# Altium integrated library TI Power Management DC-DC Controller (External Switch).IntLib: 349 symbols (part 10 of 28)
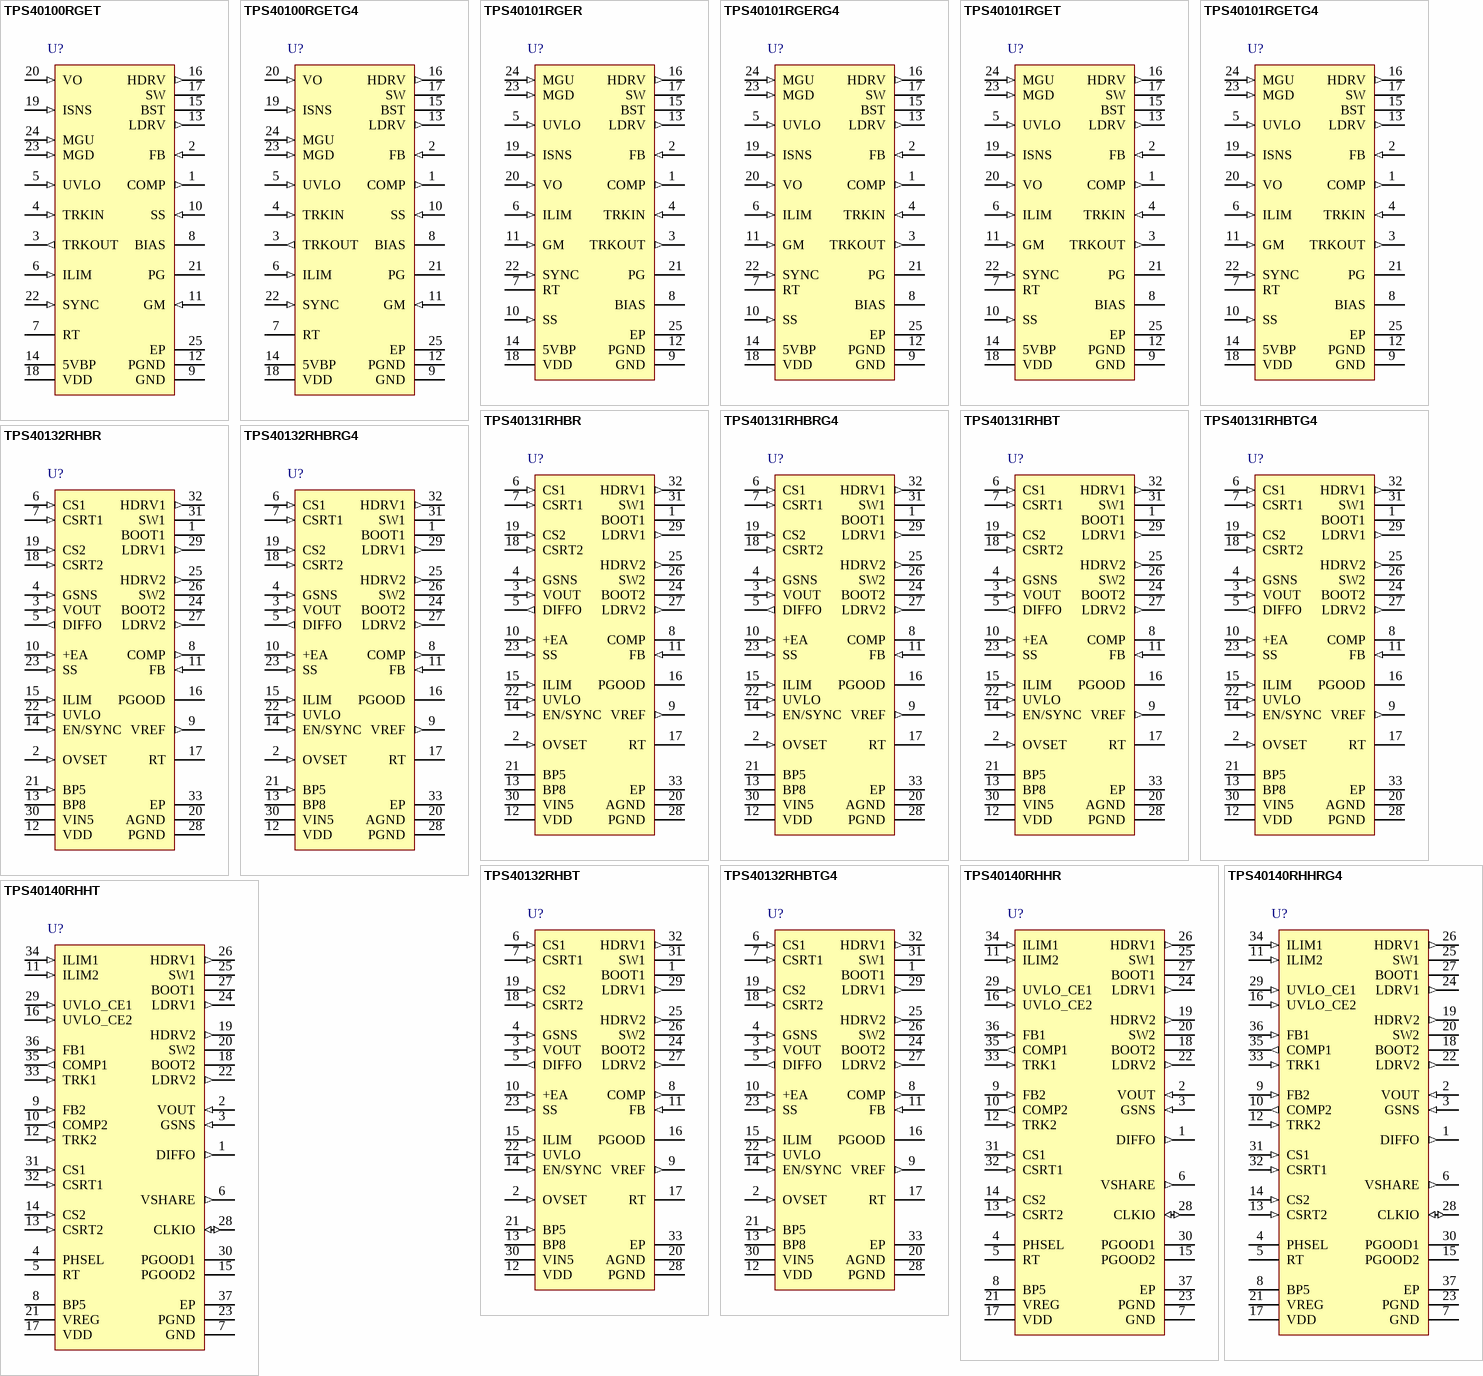
[diagram p23: symbols TPS40100RGET to TPS40140RHHT]

## TPS40101RGER
designator U?
Mid Range Input Synchronous Buck Controller with Advanced Sequencing and Output Margining, 85 % Duty Cycle, 4.5 to 18 V, -40 to 85 degC, 24-pin VQFN (RGE), Green (RoHS & no Sb/Br); Manufacturer: Texas Instruments; PartNumber: TPS40101RGER; Duty Cycle(Max)(%): 85; Iout(Max)(A): 20; Regulated Outputs(#): 1; SubFamily: Step-Down Controller; Switching Frequency(Max)(kHz): 1000; Synchronous Rectification: TRUE; Vin(Max)(V): 18; Vin(Min)(V): 4.5; Vout(Max)(V): 5.5; Vout(Min)(V): 0.69; DatasheetVersion: SLUS726; PackageVersion: revG, Jul-2011; PackageReference: RGE24-2450X2450TP; PackageDescription: 24-Pin Plastic Quad Flatpack No-Lead, 4 x 4 mm Body, 0.5 mm Pitch; Supplier 1: Digi-Key; Supplier Part Number 1: 296-21271-2-ND; Supplier 2: Digi-Key; Supplier Part Number 2: 296-21271-1-ND; Supplier 3: Digi-Key; Supplier Part Number 3: 296-21271-6-ND; Supplier 4: Newark; Supplier Part Number 4: 20M5884; Supplier 5: Mouser; Supplier Part Number 5: 595-TPS40101RGER; Eco-Plan: Green (RoHS & no Sb/Br); Topology: Buck; Mounting Technology: Surface Mount; Code_JEDEC: MO-220; ComponentLink1Description: Datasheet; ComponentLink1URL: http://www.ti.com/general/docs/lit/getliterature.tsp?genericPartNumber=TPS40101&fileType=pdf; ComponentLink2Description: Package Specification; ComponentLink2URL: http://www.ti.com/litv/pdf/mpqf124f
footprint RGE24-2450X2450TP (QFN, 24-Leads, Body 4x4mm, Pitch 0.5mm, Thermal Pad 2.45x2.45mm, TI Recommended)
pins: 1 COMP (out) "Output of the error amplifier. A feedback network is connected from this pin to the FB pin for control loop compensation.", 2 FB (in) "Inverting input to the error amplifier. In normal operation the voltage on this pin is equal to the internal reference voltage (approximately 690 mV).", 3 TRKOUT (out) "Output of the tracking amplifier. If the tracking feature is used, this pin should be connected to FB pin through a resistor in series with a diode. The resistor value can be calculated from the equivalent impedance at the (See Datasheet)", 4 TRKIN (in) "Control input allowing simultaneous startup of multiple controllers. The converter output tracks TRKIN voltage with a small controlled offset (typically 25 mV) when the tracking amplifier is used. See application secttion (See Datasheet)", 5 UVLO (in) "Provides for programming the undervoltage lockout level and serves as a shutdown input for the device.", 6 ILIM (in) "Current limit pin used to set the overcurrent threshold and transient ride out time. An internal current source that is proportional to the inductor current sets a voltage on a resistor connected from this pin to GND. When (See Datasheet)", 7 RT "A resistor connected from this pin to GND sets operating frequency.", 8 BIAS "The bypassed supply for internal device circuitry. Connect a 0.1-uF or greater ceramic capacitor from this pin to GND.", 9 GND (power) "Low power or signal ground for the device. All signal level circuits should be referenced to this pin unless otherwise noted.", 10 SS (in) "Soft-start programming pin. A capacitor connected from this pin to ground programs the soft-start time. This pin is also used as a time out function during an overcurrent event.", 11 GM (in) "Connect a resistor from this pin to GND to set the gain of the current sense amplifier.", 12 PGND (power) "Power ground for internal drivers", 13 LDRV (out) "Gate drive for the N-channel synchronous rectifier.", 14 5VBP (power) "Output of an internal 5-V regulator. A 1-uF bypass capacitor should be connected from this  pin to PGND. Power for external circuitry may be drawn from this pin. The total gate drive current and external current draw should (See Datasheet)", 15 BST (power) "Gate drive voltage for the high-side N-channel MOSFET. An external diode must be connected from 5VBP (A) to BST(K). A schottky diode is recommended for this purpose. A capacitor must be connected from this pin to the SW pin.", 16 HDRV (out) "Floating gate drive for the high side N-channel MOSFET.", 17 SW (power) "Connected to the switched node of the converter. This pin is the return line for the flying high side driver.", 18 VDD (power) "Supply voltage for the device.", 19 ISNS (in) "Input from the inductor DCR sensing network. This input signal is one of the inputs to the current sense amplifier for current feedback control and overcurrent protection.", 20 VO (in) "Output voltage. This is the reference input to the current sense amplifier for current mode control and overcurrent protection.", 21 PG (oc) "Open drain power good output for the device. This pin is pulled low when the voltage at the FB pin is more than 10% higher or lower than 690 mV, a UVLO condition exists, soft-start is active, tracking is active, an (See Datasheet)", 22 SYNC (in) "Rising edge triggered synchronization input for the device. This pin can be used to synchronize the oscillator frequency to an external master clock. This pin may be left floating or grounded if the function is not used.", 23 MGD (in) "Margin down pin used for load stress test. When this pin is pulled to GND through less than 10 k ohm, the output voltage is decreased by 5%. The 3% margin down at the output voltage is accommodated when this pin is connected (See Datasheet)", 24 MGU (in) "Margin up pin used for load stress test. When this pin is pulled to GND through less than 10 k ohm, the output voltage is increased by 5%. The 3% margin up at the output voltage is accommodated when this pin is connected to (See Datasheet)", 25 EP "Exposed pad."

## TPS40101RGERG4
designator U?
Mid Range Input Synchronous Buck Controller with Advanced Sequencing and Output Margining, 85 % Duty Cycle, 4.5 to 18 V, -40 to 85 degC, 24-pin VQFN (RGE), Green (RoHS & no Sb/Br); Manufacturer: Texas Instruments; PartNumber: TPS40101RGERG4; Duty Cycle(Max)(%): 85; Iout(Max)(A): 20; Regulated Outputs(#): 1; SubFamily: Step-Down Controller; Switching Frequency(Max)(kHz): 1000; Synchronous Rectification: TRUE; Vin(Max)(V): 18; Vin(Min)(V): 4.5; Vout(Max)(V): 5.5; Vout(Min)(V): 0.69; DatasheetVersion: SLUS726; PackageVersion: revG, Jul-2011; PackageReference: RGE24-2450X2450TP; PackageDescription: 24-Pin Plastic Quad Flatpack No-Lead, 4 x 4 mm Body, 0.5 mm Pitch; Supplier 1: Digi-Key; Supplier Part Number 1: TPS40101RGERG4-ND; Supplier 2: Newark; Supplier Part Number 2: 20M5885; Supplier 3: Mouser; Supplier Part Number 3: 595-TPS40101RGERG4; Eco-Plan: Green (RoHS & no Sb/Br); Topology: Buck; Mounting Technology: Surface Mount; Code_JEDEC: MO-220; ComponentLink1Description: Datasheet; ComponentLink1URL: http://www.ti.com/general/docs/lit/getliterature.tsp?genericPartNumber=TPS40101&fileType=pdf; ComponentLink2Description: Package Specification; ComponentLink2URL: http://www.ti.com/litv/pdf/mpqf124f
footprint RGE24-2450X2450TP (QFN, 24-Leads, Body 4x4mm, Pitch 0.5mm, Thermal Pad 2.45x2.45mm, TI Recommended)
pins: 1 COMP (out) "Output of the error amplifier. A feedback network is connected from this pin to the FB pin for control loop compensation.", 2 FB (in) "Inverting input to the error amplifier. In normal operation the voltage on this pin is equal to the internal reference voltage (approximately 690 mV).", 3 TRKOUT (out) "Output of the tracking amplifier. If the tracking feature is used, this pin should be connected to FB pin through a resistor in series with a diode. The resistor value can be calculated from the equivalent impedance at the (See Datasheet)", 4 TRKIN (in) "Control input allowing simultaneous startup of multiple controllers. The converter output tracks TRKIN voltage with a small controlled offset (typically 25 mV) when the tracking amplifier is used. See application secttion (See Datasheet)", 5 UVLO (in) "Provides for programming the undervoltage lockout level and serves as a shutdown input for the device.", 6 ILIM (in) "Current limit pin used to set the overcurrent threshold and transient ride out time. An internal current source that is proportional to the inductor current sets a voltage on a resistor connected from this pin to GND. When (See Datasheet)", 7 RT "A resistor connected from this pin to GND sets operating frequency.", 8 BIAS "The bypassed supply for internal device circuitry. Connect a 0.1-uF or greater ceramic capacitor from this pin to GND.", 9 GND (power) "Low power or signal ground for the device. All signal level circuits should be referenced to this pin unless otherwise noted.", 10 SS (in) "Soft-start programming pin. A capacitor connected from this pin to ground programs the soft-start time. This pin is also used as a time out function during an overcurrent event.", 11 GM (in) "Connect a resistor from this pin to GND to set the gain of the current sense amplifier.", 12 PGND (power) "Power ground for internal drivers", 13 LDRV (out) "Gate drive for the N-channel synchronous rectifier.", 14 5VBP (power) "Output of an internal 5-V regulator. A 1-uF bypass capacitor should be connected from this  pin to PGND. Power for external circuitry may be drawn from this pin. The total gate drive current and external current draw should (See Datasheet)", 15 BST (power) "Gate drive voltage for the high-side N-channel MOSFET. An external diode must be connected from 5VBP (A) to BST(K). A schottky diode is recommended for this purpose. A capacitor must be connected from this pin to the SW pin.", 16 HDRV (out) "Floating gate drive for the high side N-channel MOSFET.", 17 SW (power) "Connected to the switched node of the converter. This pin is the return line for the flying high side driver.", 18 VDD (power) "Supply voltage for the device.", 19 ISNS (in) "Input from the inductor DCR sensing network. This input signal is one of the inputs to the current sense amplifier for current feedback control and overcurrent protection.", 20 VO (in) "Output voltage. This is the reference input to the current sense amplifier for current mode control and overcurrent protection.", 21 PG (oc) "Open drain power good output for the device. This pin is pulled low when the voltage at the FB pin is more than 10% higher or lower than 690 mV, a UVLO condition exists, soft-start is active, tracking is active, an (See Datasheet)", 22 SYNC (in) "Rising edge triggered synchronization input for the device. This pin can be used to synchronize the oscillator frequency to an external master clock. This pin may be left floating or grounded if the function is not used.", 23 MGD (in) "Margin down pin used for load stress test. When this pin is pulled to GND through less than 10 k ohm, the output voltage is decreased by 5%. The 3% margin down at the output voltage is accommodated when this pin is connected (See Datasheet)", 24 MGU (in) "Margin up pin used for load stress test. When this pin is pulled to GND through less than 10 k ohm, the output voltage is increased by 5%. The 3% margin up at the output voltage is accommodated when this pin is connected to (See Datasheet)", 25 EP "Exposed pad."

## TPS40101RGET
designator U?
Mid Range Input Synchronous Buck Controller with Advanced Sequencing and Output Margining, 85 % Duty Cycle, 4.5 to 18 V, -40 to 85 degC, 24-pin VQFN (RGE), Green (RoHS & no Sb/Br); Manufacturer: Texas Instruments; PartNumber: TPS40101RGET; Duty Cycle(Max)(%): 85; Iout(Max)(A): 20; Regulated Outputs(#): 1; SubFamily: Step-Down Controller; Switching Frequency(Max)(kHz): 1000; Synchronous Rectification: TRUE; Vin(Max)(V): 18; Vin(Min)(V): 4.5; Vout(Max)(V): 5.5; Vout(Min)(V): 0.69; DatasheetVersion: SLUS726; PackageVersion: revG, Jul-2011; PackageReference: RGE24-2450X2450TP; PackageDescription: 24-Pin Plastic Quad Flatpack No-Lead, 4 x 4 mm Body, 0.5 mm Pitch; Supplier 1: Digi-Key; Supplier Part Number 1: TPS40101RGET-ND; Supplier 2: Newark; Supplier Part Number 2: 20M5886; Supplier 3: Mouser; Supplier Part Number 3: 595-TPS40101RGET; Eco-Plan: Green (RoHS & no Sb/Br); Topology: Buck; Mounting Technology: Surface Mount; Code_JEDEC: MO-220; ComponentLink1Description: Datasheet; ComponentLink1URL: http://www.ti.com/general/docs/lit/getliterature.tsp?genericPartNumber=TPS40101&fileType=pdf; ComponentLink2Description: Package Specification; ComponentLink2URL: http://www.ti.com/litv/pdf/mpqf124f
footprint RGE24-2450X2450TP (QFN, 24-Leads, Body 4x4mm, Pitch 0.5mm, Thermal Pad 2.45x2.45mm, TI Recommended)
pins: 1 COMP (out) "Output of the error amplifier. A feedback network is connected from this pin to the FB pin for control loop compensation.", 2 FB (in) "Inverting input to the error amplifier. In normal operation the voltage on this pin is equal to the internal reference voltage (approximately 690 mV).", 3 TRKOUT (out) "Output of the tracking amplifier. If the tracking feature is used, this pin should be connected to FB pin through a resistor in series with a diode. The resistor value can be calculated from the equivalent impedance at the (See Datasheet)", 4 TRKIN (in) "Control input allowing simultaneous startup of multiple controllers. The converter output tracks TRKIN voltage with a small controlled offset (typically 25 mV) when the tracking amplifier is used. See application secttion (See Datasheet)", 5 UVLO (in) "Provides for programming the undervoltage lockout level and serves as a shutdown input for the device.", 6 ILIM (in) "Current limit pin used to set the overcurrent threshold and transient ride out time. An internal current source that is proportional to the inductor current sets a voltage on a resistor connected from this pin to GND. When (See Datasheet)", 7 RT "A resistor connected from this pin to GND sets operating frequency.", 8 BIAS "The bypassed supply for internal device circuitry. Connect a 0.1-uF or greater ceramic capacitor from this pin to GND.", 9 GND (power) "Low power or signal ground for the device. All signal level circuits should be referenced to this pin unless otherwise noted.", 10 SS (in) "Soft-start programming pin. A capacitor connected from this pin to ground programs the soft-start time. This pin is also used as a time out function during an overcurrent event.", 11 GM (in) "Connect a resistor from this pin to GND to set the gain of the current sense amplifier.", 12 PGND (power) "Power ground for internal drivers", 13 LDRV (out) "Gate drive for the N-channel synchronous rectifier.", 14 5VBP (power) "Output of an internal 5-V regulator. A 1-uF bypass capacitor should be connected from this  pin to PGND. Power for external circuitry may be drawn from this pin. The total gate drive current and external current draw should (See Datasheet)", 15 BST (power) "Gate drive voltage for the high-side N-channel MOSFET. An external diode must be connected from 5VBP (A) to BST(K). A schottky diode is recommended for this purpose. A capacitor must be connected from this pin to the SW pin.", 16 HDRV (out) "Floating gate drive for the high side N-channel MOSFET.", 17 SW (power) "Connected to the switched node of the converter. This pin is the return line for the flying high side driver.", 18 VDD (power) "Supply voltage for the device.", 19 ISNS (in) "Input from the inductor DCR sensing network. This input signal is one of the inputs to the current sense amplifier for current feedback control and overcurrent protection.", 20 VO (in) "Output voltage. This is the reference input to the current sense amplifier for current mode control and overcurrent protection.", 21 PG (oc) "Open drain power good output for the device. This pin is pulled low when the voltage at the FB pin is more than 10% higher or lower than 690 mV, a UVLO condition exists, soft-start is active, tracking is active, an (See Datasheet)", 22 SYNC (in) "Rising edge triggered synchronization input for the device. This pin can be used to synchronize the oscillator frequency to an external master clock. This pin may be left floating or grounded if the function is not used.", 23 MGD (in) "Margin down pin used for load stress test. When this pin is pulled to GND through less than 10 k ohm, the output voltage is decreased by 5%. The 3% margin down at the output voltage is accommodated when this pin is connected (See Datasheet)", 24 MGU (in) "Margin up pin used for load stress test. When this pin is pulled to GND through less than 10 k ohm, the output voltage is increased by 5%. The 3% margin up at the output voltage is accommodated when this pin is connected to (See Datasheet)", 25 EP "Exposed pad."

## TPS40101RGETG4
designator U?
Mid Range Input Synchronous Buck Controller with Advanced Sequencing and Output Margining, 85 % Duty Cycle, 4.5 to 18 V, -40 to 85 degC, 24-pin VQFN (RGE), Green (RoHS & no Sb/Br); Manufacturer: Texas Instruments; PartNumber: TPS40101RGETG4; Duty Cycle(Max)(%): 85; Iout(Max)(A): 20; Regulated Outputs(#): 1; SubFamily: Step-Down Controller; Switching Frequency(Max)(kHz): 1000; Synchronous Rectification: TRUE; Vin(Max)(V): 18; Vin(Min)(V): 4.5; Vout(Max)(V): 5.5; Vout(Min)(V): 0.69; DatasheetVersion: SLUS726; PackageVersion: revG, Jul-2011; PackageReference: RGE24-2450X2450TP; PackageDescription: 24-Pin Plastic Quad Flatpack No-Lead, 4 x 4 mm Body, 0.5 mm Pitch; Supplier 1: Digi-Key; Supplier Part Number 1: TPS40101RGETG4-ND; Supplier 2: Newark; Supplier Part Number 2: 20M5887; Supplier 3: Mouser; Supplier Part Number 3: 595-TPS40101RGETG4; Eco-Plan: Green (RoHS & no Sb/Br); Topology: Buck; Mounting Technology: Surface Mount; Code_JEDEC: MO-220; ComponentLink1Description: Datasheet; ComponentLink1URL: http://www.ti.com/general/docs/lit/getliterature.tsp?genericPartNumber=TPS40101&fileType=pdf; ComponentLink2Description: Package Specification; ComponentLink2URL: http://www.ti.com/litv/pdf/mpqf124f
footprint RGE24-2450X2450TP (QFN, 24-Leads, Body 4x4mm, Pitch 0.5mm, Thermal Pad 2.45x2.45mm, TI Recommended)
pins: 1 COMP (out) "Output of the error amplifier. A feedback network is connected from this pin to the FB pin for control loop compensation.", 2 FB (in) "Inverting input to the error amplifier. In normal operation the voltage on this pin is equal to the internal reference voltage (approximately 690 mV).", 3 TRKOUT (out) "Output of the tracking amplifier. If the tracking feature is used, this pin should be connected to FB pin through a resistor in series with a diode. The resistor value can be calculated from the equivalent impedance at the (See Datasheet)", 4 TRKIN (in) "Control input allowing simultaneous startup of multiple controllers. The converter output tracks TRKIN voltage with a small controlled offset (typically 25 mV) when the tracking amplifier is used. See application secttion (See Datasheet)", 5 UVLO (in) "Provides for programming the undervoltage lockout level and serves as a shutdown input for the device.", 6 ILIM (in) "Current limit pin used to set the overcurrent threshold and transient ride out time. An internal current source that is proportional to the inductor current sets a voltage on a resistor connected from this pin to GND. When (See Datasheet)", 7 RT "A resistor connected from this pin to GND sets operating frequency.", 8 BIAS "The bypassed supply for internal device circuitry. Connect a 0.1-uF or greater ceramic capacitor from this pin to GND.", 9 GND (power) "Low power or signal ground for the device. All signal level circuits should be referenced to this pin unless otherwise noted.", 10 SS (in) "Soft-start programming pin. A capacitor connected from this pin to ground programs the soft-start time. This pin is also used as a time out function during an overcurrent event.", 11 GM (in) "Connect a resistor from this pin to GND to set the gain of the current sense amplifier.", 12 PGND (power) "Power ground for internal drivers", 13 LDRV (out) "Gate drive for the N-channel synchronous rectifier.", 14 5VBP (power) "Output of an internal 5-V regulator. A 1-uF bypass capacitor should be connected from this  pin to PGND. Power for external circuitry may be drawn from this pin. The total gate drive current and external current draw should (See Datasheet)", 15 BST (power) "Gate drive voltage for the high-side N-channel MOSFET. An external diode must be connected from 5VBP (A) to BST(K). A schottky diode is recommended for this purpose. A capacitor must be connected from this pin to the SW pin.", 16 HDRV (out) "Floating gate drive for the high side N-channel MOSFET.", 17 SW (power) "Connected to the switched node of the converter. This pin is the return line for the flying high side driver.", 18 VDD (power) "Supply voltage for the device.", 19 ISNS (in) "Input from the inductor DCR sensing network. This input signal is one of the inputs to the current sense amplifier for current feedback control and overcurrent protection.", 20 VO (in) "Output voltage. This is the reference input to the current sense amplifier for current mode control and overcurrent protection.", 21 PG (oc) "Open drain power good output for the device. This pin is pulled low when the voltage at the FB pin is more than 10% higher or lower than 690 mV, a UVLO condition exists, soft-start is active, tracking is active, an (See Datasheet)", 22 SYNC (in) "Rising edge triggered synchronization input for the device. This pin can be used to synchronize the oscillator frequency to an external master clock. This pin may be left floating or grounded if the function is not used.", 23 MGD (in) "Margin down pin used for load stress test. When this pin is pulled to GND through less than 10 k ohm, the output voltage is decreased by 5%. The 3% margin down at the output voltage is accommodated when this pin is connected (See Datasheet)", 24 MGU (in) "Margin up pin used for load stress test. When this pin is pulled to GND through less than 10 k ohm, the output voltage is increased by 5%. The 3% margin up at the output voltage is accommodated when this pin is connected to (See Datasheet)", 25 EP "Exposed pad."

## TPS40131RHBR
designator U?
Two-Phase Synchronous Buck Controller with Integrated Mosfet Driver, 87.5 % Duty Cycle, 1 to 40 V, -40 to 85 degC, 32-pin QFN (RHB), Green (RoHS & no Sb/Br); Manufacturer: Texas Instruments; PartNumber: TPS40131RHBR; Duty Cycle(Max)(%): 87.5; Iout(Max)(A): 50; Regulated Outputs(#): 1; SubFamily: Step-Down Controller; Switching Frequency(Max)(kHz): 1000; Synchronous Rectification: TRUE; Topology: Buck, Multiphase"; Vin(Max)(V): 40; Vout(Max)(V): 5.8; Vout(Min)(V): 0.7; DatasheetVersion: SLVS635; PackageVersion: revD, Jun-2011; PackageReference: RHB32-3450X3450TP; PackageDescription: 32-Pin Plastic Quad Flat No-Lead, 5 x 5 mm Body, 0.5 mm Pitch, 3.45 x 3.45 mm Exposed Pad; Supplier 1: Digi-Key; Supplier Part Number 1: 296-21675-2-ND; Supplier 2: Digi-Key; Supplier Part Number 2: 296-21675-1-ND; Supplier 3: Digi-Key; Supplier Part Number 3: 296-21675-6-ND; Supplier 4: Newark; Supplier Part Number 4: 37M0053; Supplier 5: Mouser; Supplier Part Number 5: 595-TPS40131RHBR; Eco-Plan: Green (RoHS & no Sb/Br); Vin(Min)(V): 1; Mounting Technology: Surface Mount; Code_JEDEC: MO-220; ComponentLink1Description: Datasheet; ComponentLink1URL: http://www.ti.com/general/docs/lit/getliterature.tsp?genericPartNumber=TPS40131&fileType=pdf; ComponentLink2Description: Package Specification; ComponentLink2URL: http://www.ti.com/litv/pdf/mpqf130c
footprint RHB32-3450X3450TP (QFN, 32-Leads, Body 5x5mm, Pitch 0.5mm, Thermal Pad 3.45x3.45mm, TI Recommended)
pins: 1 BOOT1 (power) "Provides a bootstrapped supply for the high-side FET driver for PWM1, enabling the gate of the high-side FET to be driven above the input supply rail. Connect a capacitor from this pin to SW1 pin and a Schottky diode from (See Datasheet)", 2 OVSET (in) "A resistor divider, on this pin connected to the output voltage sets the overvoltage sense point.", 3 VOUT (in) "Non-inverting input of the differential amplifier. This pin should be connected to VOUT at the point of load.", 4 GSNS (in) "Inverting input of the differential amplifier. This pin should be connected to ground at the point of load.", 5 DIFFO (out) "Output of the differential amplifier. The voltage at this pin represents the true output voltage without IR drops that result from high-current in the PCB traces. The VOUT and GSNS pins must be connected directly at the (See Datasheet)", 6 CS1 (in) "These pins are used to sense the inductor phase current. Inductor current can be sensed with an external current sense resistor or by using an external R-C circuit and the inductor's DC resistance. The traces for these (See Datasheet)", 7 CSRT1 (in) "Return point of current sense voltage. The traces for these signals must be connected directly at the current sense element. See Layout Guidelines for more information.", 8 COMP "Output of the error amplifier. The voltage at this pin determines the duty cycle for the PWM.", 9 VREF (out) "Output of an internal reference voltage. The load may be up to 100-uA DC.", 10 +EA (in) "This is the input to the non-inverting input of the Error Amplifier. This pin is normally connected to the VREF pin and is the voltage that the feedback loop regulates to.", 11 FB (in) "Inverting input of the error amplifier. In closed loop operation, the voltage at this pin is the internal reference level of 700 mV. This pin is also used for the PGOOD and undervoltage comparators.", 12 VDD (power) "Power input for the LDO linear regulator that powers the differential amplifer and the current sense amplifiers.", 13 BP8 (power) "Output of the LDO that powers the differential amplifer and the current sense amplifiers. The voltage is approximately (VVDD -0.2 V) until the output regulates at approximately 7.5 V. Decouple this pin with a minimum (See Datasheet)", 14 EN/SYNC (in) "A logic high signal on this input enables the controller operation. A pulsing signal to this pin synchronizes the rising edge of SW to the falling edge of an external clock source.", 15 ILIM (in) "Used to set the cycle-by-cycle current limit threshold. If ILIM threshold is reached, the PWM cycle is terminated and the converter delivers limited current to the output.See the Overcurrent Protection section for more (See Datasheet)", 16 PGOOD (oc) "Power good indicator of the output voltage. This open-drain output connects to a voltage via an external resistor. When the FB pin voltage is between 0.616 V to 0.784 V (88% to 112% of VREF), the PGOOD output is in a high (See Datasheet)", 17 RT "Connecting a resistor from this pin to ground sets the oscillator frequency.", 18 CSRT2 (in) "Return point of current sense voltage. The traces for these signals must be connected directly at the current sense element. See Layout Guidelines for more information.", 19 CS2 (in) "These pins are used to sense the inductor phase current. Inductor current can be sensed with an external current sense resistor or by using an external R-C circuit and the inductor's DC resistance. The traces for these (See Datasheet)", 20 AGND (power) "Low noise ground connection to the device.", 21 BP5 (power) "Filtered input from the VIN5 pin. A 10-ohm resistor should be connected between VIN5 and BP5 and a 1.0-uF ceramic capacitor should be connected from this pin to ground.", 22 UVLO (in) "A voltage divider from VIN to this pin, set to 1V, determines the input voltage that starts the controller.", 23 SS (in) "Provides user programmable soft-start by means of a capacitor connected to the pin. If an undervoltage or over current fault is detected the soft-start capacitor cycles 7 times with no switching before a normal soft-start (See Datasheet)", 24 BOOT2 (power) "Provides a bootstrapped supply for the high-side FET driver for PWM2, enabling the gate of the high-side FET to be driven above the input supply rail. Connect a capacitor from this pin to SW2 pin and a Schottky diode from (See Datasheet)", 25 HDRV2 (out) "Gate drive output for the high-side N-channel MOSFET switch for PWM2. Output is referenced to SW2 and is bootstrapped for enhancement of the high-side switch.", 26 SW2 (power) "Connect to the switched node on converter 2. Power return for the channel 2 upper gate driver. There should be a high-current return path from the source of the upper MOSFET to this pin. It is also used by the adaptive gate (See Datasheet)", 27 LDRV2 (out) "Gate drive output for the low-side synchronous rectifier (SR) N-channel MOSFET for PWM2. See Layout Considerations section.", 28 PGND (power) "Power ground reference for the controller lower gate drivers. There should be a high-current return path from the sources of the lower MOSFETs to this pin.", 29 LDRV1 (out) "Gate drive output for the low-side synchronous rectifier (SR) N-channel MOSFET for PWM1. See Layout Considerations section.", 30 VIN5 (power) "Power input for the device. A 1.0-uF ceramic capacitor should be connected from this pin to ground.", 31 SW1 (power) "Connect to the switched node on converter 1. Power return for the channel 1 upper gate driver. There should be a high-current return path from the source of the upper MOSFET to this pin. It is also used by the adaptive gate (See Datasheet)", 32 HDRV1 (out) "Gate drive output for the high-side N-channel MOSFET switch for PWM1. Output is referenced to SW1 and is bootstrapped for enhancement of the high-side switch.", 33 EP (power) "Exposed thermal pad."

## TPS40131RHBRG4
designator U?
Two-Phase Synchronous Buck Controller with Integrated Mosfet Driver, 87.5 % Duty Cycle, 1 to 40 V, -40 to 85 degC, 32-pin QFN (RHB), Green (RoHS & no Sb/Br); Manufacturer: Texas Instruments; PartNumber: TPS40131RHBRG4; Duty Cycle(Max)(%): 87.5; Iout(Max)(A): 50; Regulated Outputs(#): 1; SubFamily: Step-Down Controller; Switching Frequency(Max)(kHz): 1000; Synchronous Rectification: TRUE; Topology: Buck, Multiphase"; Vin(Max)(V): 40; Vout(Max)(V): 5.8; Vout(Min)(V): 0.7; DatasheetVersion: SLVS635; PackageVersion: revD, Jun-2011; PackageReference: RHB32-3450X3450TP; PackageDescription: 32-Pin Plastic Quad Flat No-Lead, 5 x 5 mm Body, 0.5 mm Pitch, 3.45 x 3.45 mm Exposed Pad; Supplier 1: Digi-Key; Supplier Part Number 1: TPS40131RHBRG4-ND; Supplier 2: Newark; Supplier Part Number 2: 41M5866; Supplier 3: Mouser; Supplier Part Number 3: 595-TPS40131RHBRG4; Eco-Plan: Green (RoHS & no Sb/Br); Vin(Min)(V): 1; Mounting Technology: Surface Mount; Code_JEDEC: MO-220; ComponentLink1Description: Datasheet; ComponentLink1URL: http://www.ti.com/general/docs/lit/getliterature.tsp?genericPartNumber=TPS40131&fileType=pdf; ComponentLink2Description: Package Specification; ComponentLink2URL: http://www.ti.com/litv/pdf/mpqf130c
footprint RHB32-3450X3450TP (QFN, 32-Leads, Body 5x5mm, Pitch 0.5mm, Thermal Pad 3.45x3.45mm, TI Recommended)
pins: 1 BOOT1 (power) "Provides a bootstrapped supply for the high-side FET driver for PWM1, enabling the gate of the high-side FET to be driven above the input supply rail. Connect a capacitor from this pin to SW1 pin and a Schottky diode from (See Datasheet)", 2 OVSET (in) "A resistor divider, on this pin connected to the output voltage sets the overvoltage sense point.", 3 VOUT (in) "Non-inverting input of the differential amplifier. This pin should be connected to VOUT at the point of load.", 4 GSNS (in) "Inverting input of the differential amplifier. This pin should be connected to ground at the point of load.", 5 DIFFO (out) "Output of the differential amplifier. The voltage at this pin represents the true output voltage without IR drops that result from high-current in the PCB traces. The VOUT and GSNS pins must be connected directly at the (See Datasheet)", 6 CS1 (in) "These pins are used to sense the inductor phase current. Inductor current can be sensed with an external current sense resistor or by using an external R-C circuit and the inductor's DC resistance. The traces for these (See Datasheet)", 7 CSRT1 (in) "Return point of current sense voltage. The traces for these signals must be connected directly at the current sense element. See Layout Guidelines for more information.", 8 COMP "Output of the error amplifier. The voltage at this pin determines the duty cycle for the PWM.", 9 VREF (out) "Output of an internal reference voltage. The load may be up to 100-uA DC.", 10 +EA (in) "This is the input to the non-inverting input of the Error Amplifier. This pin is normally connected to the VREF pin and is the voltage that the feedback loop regulates to.", 11 FB (in) "Inverting input of the error amplifier. In closed loop operation, the voltage at this pin is the internal reference level of 700 mV. This pin is also used for the PGOOD and undervoltage comparators.", 12 VDD (power) "Power input for the LDO linear regulator that powers the differential amplifer and the current sense amplifiers.", 13 BP8 (power) "Output of the LDO that powers the differential amplifer and the current sense amplifiers. The voltage is approximately (VVDD -0.2 V) until the output regulates at approximately 7.5 V. Decouple this pin with a minimum (See Datasheet)", 14 EN/SYNC (in) "A logic high signal on this input enables the controller operation. A pulsing signal to this pin synchronizes the rising edge of SW to the falling edge of an external clock source.", 15 ILIM (in) "Used to set the cycle-by-cycle current limit threshold. If ILIM threshold is reached, the PWM cycle is terminated and the converter delivers limited current to the output.See the Overcurrent Protection section for more (See Datasheet)", 16 PGOOD (oc) "Power good indicator of the output voltage. This open-drain output connects to a voltage via an external resistor. When the FB pin voltage is between 0.616 V to 0.784 V (88% to 112% of VREF), the PGOOD output is in a high (See Datasheet)", 17 RT "Connecting a resistor from this pin to ground sets the oscillator frequency.", 18 CSRT2 (in) "Return point of current sense voltage. The traces for these signals must be connected directly at the current sense element. See Layout Guidelines for more information.", 19 CS2 (in) "These pins are used to sense the inductor phase current. Inductor current can be sensed with an external current sense resistor or by using an external R-C circuit and the inductor's DC resistance. The traces for these (See Datasheet)", 20 AGND (power) "Low noise ground connection to the device.", 21 BP5 (power) "Filtered input from the VIN5 pin. A 10-ohm resistor should be connected between VIN5 and BP5 and a 1.0-uF ceramic capacitor should be connected from this pin to ground.", 22 UVLO (in) "A voltage divider from VIN to this pin, set to 1V, determines the input voltage that starts the controller.", 23 SS (in) "Provides user programmable soft-start by means of a capacitor connected to the pin. If an undervoltage or over current fault is detected the soft-start capacitor cycles 7 times with no switching before a normal soft-start (See Datasheet)", 24 BOOT2 (power) "Provides a bootstrapped supply for the high-side FET driver for PWM2, enabling the gate of the high-side FET to be driven above the input supply rail. Connect a capacitor from this pin to SW2 pin and a Schottky diode from (See Datasheet)", 25 HDRV2 (out) "Gate drive output for the high-side N-channel MOSFET switch for PWM2. Output is referenced to SW2 and is bootstrapped for enhancement of the high-side switch.", 26 SW2 (power) "Connect to the switched node on converter 2. Power return for the channel 2 upper gate driver. There should be a high-current return path from the source of the upper MOSFET to this pin. It is also used by the adaptive gate (See Datasheet)", 27 LDRV2 (out) "Gate drive output for the low-side synchronous rectifier (SR) N-channel MOSFET for PWM2. See Layout Considerations section.", 28 PGND (power) "Power ground reference for the controller lower gate drivers. There should be a high-current return path from the sources of the lower MOSFETs to this pin.", 29 LDRV1 (out) "Gate drive output for the low-side synchronous rectifier (SR) N-channel MOSFET for PWM1. See Layout Considerations section.", 30 VIN5 (power) "Power input for the device. A 1.0-uF ceramic capacitor should be connected from this pin to ground.", 31 SW1 (power) "Connect to the switched node on converter 1. Power return for the channel 1 upper gate driver. There should be a high-current return path from the source of the upper MOSFET to this pin. It is also used by the adaptive gate (See Datasheet)", 32 HDRV1 (out) "Gate drive output for the high-side N-channel MOSFET switch for PWM1. Output is referenced to SW1 and is bootstrapped for enhancement of the high-side switch.", 33 EP (power) "Exposed thermal pad."

## TPS40131RHBT
designator U?
Two-Phase Synchronous Buck Controller with Integrated Mosfet Driver, 87.5 % Duty Cycle, 1 to 40 V, -40 to 85 degC, 32-pin QFN (RHB), Green (RoHS & no Sb/Br); Manufacturer: Texas Instruments; PartNumber: TPS40131RHBT; Duty Cycle(Max)(%): 87.5; Iout(Max)(A): 50; Regulated Outputs(#): 1; SubFamily: Step-Down Controller; Switching Frequency(Max)(kHz): 1000; Synchronous Rectification: TRUE; Topology: Buck, Multiphase"; Vin(Max)(V): 40; Vout(Max)(V): 5.8; Vout(Min)(V): 0.7; DatasheetVersion: SLVS635; PackageVersion: revD, Jun-2011; PackageReference: RHB32-3450X3450TP; PackageDescription: 32-Pin Plastic Quad Flat No-Lead, 5 x 5 mm Body, 0.5 mm Pitch, 3.45 x 3.45 mm Exposed Pad; Supplier 1: Digi-Key; Supplier Part Number 1: 296-32486-2-ND; Supplier 2: Digi-Key; Supplier Part Number 2: 296-32486-1-ND; Supplier 3: Digi-Key; Supplier Part Number 3: 296-32486-6-ND; Supplier 4: Newark; Supplier Part Number 4: 37M0054; Supplier 5: Mouser; Supplier Part Number 5: 595-TPS40131RHBT; Eco-Plan: Green (RoHS & no Sb/Br); Vin(Min)(V): 1; Mounting Technology: Surface Mount; Code_JEDEC: MO-220; ComponentLink1Description: Datasheet; ComponentLink1URL: http://www.ti.com/general/docs/lit/getliterature.tsp?genericPartNumber=TPS40131&fileType=pdf; ComponentLink2Description: Package Specification; ComponentLink2URL: http://www.ti.com/litv/pdf/mpqf130c
footprint RHB32-3450X3450TP (QFN, 32-Leads, Body 5x5mm, Pitch 0.5mm, Thermal Pad 3.45x3.45mm, TI Recommended)
pins: 1 BOOT1 (power) "Provides a bootstrapped supply for the high-side FET driver for PWM1, enabling the gate of the high-side FET to be driven above the input supply rail. Connect a capacitor from this pin to SW1 pin and a Schottky diode from (See Datasheet)", 2 OVSET (in) "A resistor divider, on this pin connected to the output voltage sets the overvoltage sense point.", 3 VOUT (in) "Non-inverting input of the differential amplifier. This pin should be connected to VOUT at the point of load.", 4 GSNS (in) "Inverting input of the differential amplifier. This pin should be connected to ground at the point of load.", 5 DIFFO (out) "Output of the differential amplifier. The voltage at this pin represents the true output voltage without IR drops that result from high-current in the PCB traces. The VOUT and GSNS pins must be connected directly at the (See Datasheet)", 6 CS1 (in) "These pins are used to sense the inductor phase current. Inductor current can be sensed with an external current sense resistor or by using an external R-C circuit and the inductor's DC resistance. The traces for these (See Datasheet)", 7 CSRT1 (in) "Return point of current sense voltage. The traces for these signals must be connected directly at the current sense element. See Layout Guidelines for more information.", 8 COMP "Output of the error amplifier. The voltage at this pin determines the duty cycle for the PWM.", 9 VREF (out) "Output of an internal reference voltage. The load may be up to 100-uA DC.", 10 +EA (in) "This is the input to the non-inverting input of the Error Amplifier. This pin is normally connected to the VREF pin and is the voltage that the feedback loop regulates to.", 11 FB (in) "Inverting input of the error amplifier. In closed loop operation, the voltage at this pin is the internal reference level of 700 mV. This pin is also used for the PGOOD and undervoltage comparators.", 12 VDD (power) "Power input for the LDO linear regulator that powers the differential amplifer and the current sense amplifiers.", 13 BP8 (power) "Output of the LDO that powers the differential amplifer and the current sense amplifiers. The voltage is approximately (VVDD -0.2 V) until the output regulates at approximately 7.5 V. Decouple this pin with a minimum (See Datasheet)", 14 EN/SYNC (in) "A logic high signal on this input enables the controller operation. A pulsing signal to this pin synchronizes the rising edge of SW to the falling edge of an external clock source.", 15 ILIM (in) "Used to set the cycle-by-cycle current limit threshold. If ILIM threshold is reached, the PWM cycle is terminated and the converter delivers limited current to the output.See the Overcurrent Protection section for more (See Datasheet)", 16 PGOOD (oc) "Power good indicator of the output voltage. This open-drain output connects to a voltage via an external resistor. When the FB pin voltage is between 0.616 V to 0.784 V (88% to 112% of VREF), the PGOOD output is in a high (See Datasheet)", 17 RT "Connecting a resistor from this pin to ground sets the oscillator frequency.", 18 CSRT2 (in) "Return point of current sense voltage. The traces for these signals must be connected directly at the current sense element. See Layout Guidelines for more information.", 19 CS2 (in) "These pins are used to sense the inductor phase current. Inductor current can be sensed with an external current sense resistor or by using an external R-C circuit and the inductor's DC resistance. The traces for these (See Datasheet)", 20 AGND (power) "Low noise ground connection to the device.", 21 BP5 (power) "Filtered input from the VIN5 pin. A 10-ohm resistor should be connected between VIN5 and BP5 and a 1.0-uF ceramic capacitor should be connected from this pin to ground.", 22 UVLO (in) "A voltage divider from VIN to this pin, set to 1V, determines the input voltage that starts the controller.", 23 SS (in) "Provides user programmable soft-start by means of a capacitor connected to the pin. If an undervoltage or over current fault is detected the soft-start capacitor cycles 7 times with no switching before a normal soft-start (See Datasheet)", 24 BOOT2 (power) "Provides a bootstrapped supply for the high-side FET driver for PWM2, enabling the gate of the high-side FET to be driven above the input supply rail. Connect a capacitor from this pin to SW2 pin and a Schottky diode from (See Datasheet)", 25 HDRV2 (out) "Gate drive output for the high-side N-channel MOSFET switch for PWM2. Output is referenced to SW2 and is bootstrapped for enhancement of the high-side switch.", 26 SW2 (power) "Connect to the switched node on converter 2. Power return for the channel 2 upper gate driver. There should be a high-current return path from the source of the upper MOSFET to this pin. It is also used by the adaptive gate (See Datasheet)", 27 LDRV2 (out) "Gate drive output for the low-side synchronous rectifier (SR) N-channel MOSFET for PWM2. See Layout Considerations section.", 28 PGND (power) "Power ground reference for the controller lower gate drivers. There should be a high-current return path from the sources of the lower MOSFETs to this pin.", 29 LDRV1 (out) "Gate drive output for the low-side synchronous rectifier (SR) N-channel MOSFET for PWM1. See Layout Considerations section.", 30 VIN5 (power) "Power input for the device. A 1.0-uF ceramic capacitor should be connected from this pin to ground.", 31 SW1 (power) "Connect to the switched node on converter 1. Power return for the channel 1 upper gate driver. There should be a high-current return path from the source of the upper MOSFET to this pin. It is also used by the adaptive gate (See Datasheet)", 32 HDRV1 (out) "Gate drive output for the high-side N-channel MOSFET switch for PWM1. Output is referenced to SW1 and is bootstrapped for enhancement of the high-side switch.", 33 EP (power) "Exposed thermal pad."